# Altium integrated library Analog Devices Operational Amplifiers.IntLib: 2102 symbols (part 13 of 70)
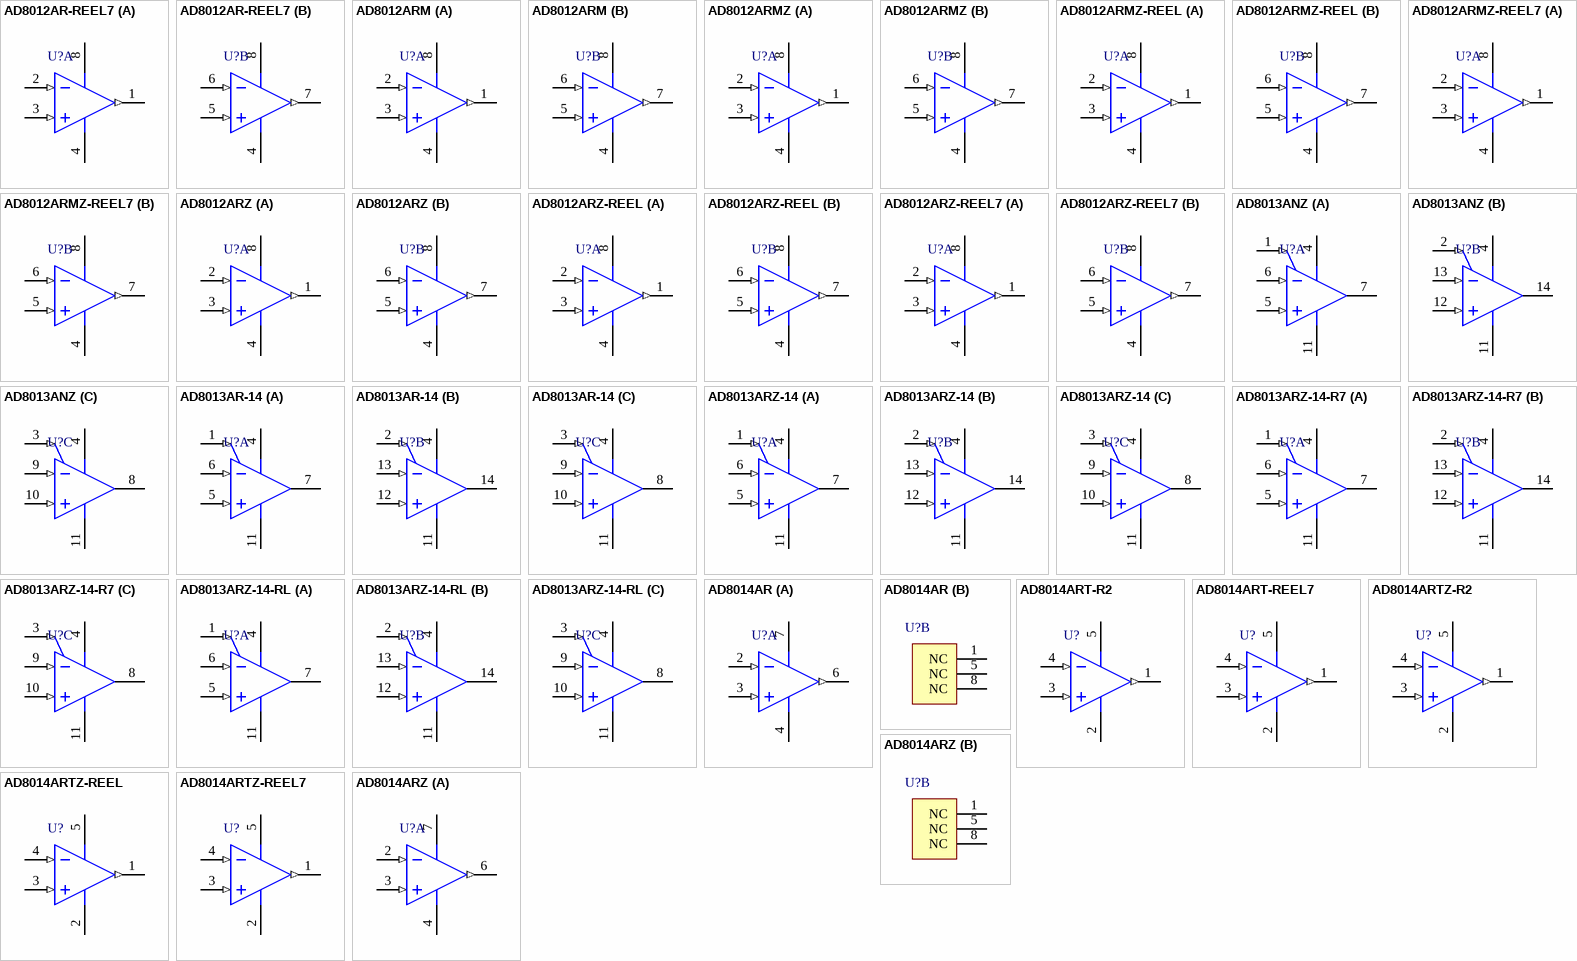
[diagram p126: symbols AD8012AR-REEL7 to AD8014ARZ]

## AD8012ARMZ
designator U?
Double Channel Low Power Operational Amplifier, 350 MHz BW, 2.25 KV/us SR, Industrial, 8-pin SOP (RM-8), Tube; Generic Part Number: AD8012; Manufacturer: Analog Devices; PartNumber: AD8012ARMZ; Amplifiers Per Package: 2; Input Bias Current: 3uA; Input Offset Voltage: 1mV; Iq/Amp: 900uA; Small Signal Bandwidth: 350MHz; V Span Max: 12V; V Span Min: 3V; DatasheetVersion: Rev. B; PackageReference: RM-8; PackageDescription: 8-Pin Mini Small Outline Package, Body 3 x 3 mm, Pitch 0.65 mm; Supplier 1: Digi-Key; Supplier Part Number 1: AD8012ARMZ-ND; Supplier 2: Farnell; Supplier Part Number 2: 1424017; Supplier 3: Newark; Supplier Part Number 3: 82H2943; Packing: Tube; Slew Rate: 2.25KV/us; Mounting Technology: Surface Mount; Code_JEDEC: MO-187-AA; ComponentLink1Description: Manufacturer URL; ComponentLink1URL: http://www.analog.com/en/index.html; ComponentLink2Description: Datasheet; ComponentLink2URL: http://www.analog.com/static/imported-files/data_sheets/AD8012.pdf; ComponentLink3Description: Package Specification; ComponentLink3URL: http://www.analog.com/static/imported-files/packages/PKG_PDF/MSOP%28RM%29/RM_8.pdf
footprint ADI-RM-8_N (SOP, 8-Leads, Body 3x3mm, Pitch 0.65mm, IPC Medium Density)
footprint ADI-RM-8_L (SOP, 8-Leads, Body 3x3mm, Pitch 0.65mm, IPC High Density)
footprint ADI-RM-8_M (SOP, 8-Leads, Body 3x3mm, Pitch 0.65mm, IPC Low Density)
pins on every part: 4 -VS (power), 8 +VS (power)
part A pins: 1 OUT 1 (out), 2 -IN 1 (in), 3 +IN 1 (in)
part B pins: 5 +IN 2 (in), 6 -IN 2 (in), 7 OUT 2 (out)

## AD8012ARMZ-REEL
designator U?
Double Channel Low Power Operational Amplifier, 350 MHz BW, 2.25 KV/us SR, Industrial, 8-pin SOP (RM-8), Reel; Generic Part Number: AD8012; Manufacturer: Analog Devices; PartNumber: AD8012ARMZ-REEL; Amplifiers Per Package: 2; Input Bias Current: 3uA; Input Offset Voltage: 1mV; Iq/Amp: 900uA; Small Signal Bandwidth: 350MHz; V Span Max: 12V; V Span Min: 3V; DatasheetVersion: Rev. B; PackageReference: RM-8; PackageDescription: 8-Pin Mini Small Outline Package, Body 3 x 3 mm, Pitch 0.65 mm; Supplier 1: Digi-Key; Supplier Part Number 1: AD8012ARMZ-REEL-ND; Packing: Reel; Slew Rate: 2.25KV/us; Mounting Technology: Surface Mount; Code_JEDEC: MO-187-AA; ComponentLink1Description: Manufacturer URL; ComponentLink1URL: http://www.analog.com/en/index.html; ComponentLink2Description: Datasheet; ComponentLink2URL: http://www.analog.com/static/imported-files/data_sheets/AD8012.pdf; ComponentLink3Description: Package Specification; ComponentLink3URL: http://www.analog.com/static/imported-files/packages/PKG_PDF/MSOP%28RM%29/RM_8.pdf
footprint ADI-RM-8_N (SOP, 8-Leads, Body 3x3mm, Pitch 0.65mm, IPC Medium Density)
footprint ADI-RM-8_L (SOP, 8-Leads, Body 3x3mm, Pitch 0.65mm, IPC High Density)
footprint ADI-RM-8_M (SOP, 8-Leads, Body 3x3mm, Pitch 0.65mm, IPC Low Density)
pins on every part: 4 -VS (power), 8 +VS (power)
part A pins: 1 OUT 1 (out), 2 -IN 1 (in), 3 +IN 1 (in)
part B pins: 5 +IN 2 (in), 6 -IN 2 (in), 7 OUT 2 (out)

## AD8012ARMZ-REEL7
designator U?
Double Channel Low Power Operational Amplifier, 350 MHz BW, 2.25 KV/us SR, Industrial, 8-pin SOP (RM-8), Reel; Generic Part Number: AD8012; Manufacturer: Analog Devices; PartNumber: AD8012ARMZ-REEL7; Amplifiers Per Package: 2; Input Bias Current: 3uA; Input Offset Voltage: 1mV; Iq/Amp: 900uA; Small Signal Bandwidth: 350MHz; V Span Max: 12V; V Span Min: 3V; DatasheetVersion: Rev. B; PackageReference: RM-8; PackageDescription: 8-Pin Mini Small Outline Package, Body 3 x 3 mm, Pitch 0.65 mm; Supplier 1: Digi-Key; Supplier Part Number 1: AD8012ARMZ-REEL7TR-ND; Supplier 2: Digi-Key; Supplier Part Number 2: AD8012ARMZ-REEL7CT-ND; Supplier 3: Digi-Key; Supplier Part Number 3: AD8012ARMZ-REEL7DKR-ND; Packing: Reel; Slew Rate: 2.25KV/us; Mounting Technology: Surface Mount; Code_JEDEC: MO-187-AA; ComponentLink1Description: Manufacturer URL; ComponentLink1URL: http://www.analog.com/en/index.html; ComponentLink2Description: Datasheet; ComponentLink2URL: http://www.analog.com/static/imported-files/data_sheets/AD8012.pdf; ComponentLink3Description: Package Specification; ComponentLink3URL: http://www.analog.com/static/imported-files/packages/PKG_PDF/MSOP%28RM%29/RM_8.pdf
footprint ADI-RM-8_N (SOP, 8-Leads, Body 3x3mm, Pitch 0.65mm, IPC Medium Density)
footprint ADI-RM-8_L (SOP, 8-Leads, Body 3x3mm, Pitch 0.65mm, IPC High Density)
footprint ADI-RM-8_M (SOP, 8-Leads, Body 3x3mm, Pitch 0.65mm, IPC Low Density)
pins on every part: 4 -VS (power), 8 +VS (power)
part A pins: 1 OUT 1 (out), 2 -IN 1 (in), 3 +IN 1 (in)
part B pins: 5 +IN 2 (in), 6 -IN 2 (in), 7 OUT 2 (out)

## AD8012ARZ
designator U?
Double Channel Low Power Operational Amplifier, 350 MHz BW, 2.25 KV/us SR, Industrial, 8-pin SOIC (R-8), Tube; Generic Part Number: AD8012; Manufacturer: Analog Devices; PartNumber: AD8012ARZ; Amplifiers Per Package: 2; Input Bias Current: 3uA; Input Offset Voltage: 1mV; Iq/Amp: 900uA; Small Signal Bandwidth: 350MHz; V Span Max: 12V; V Span Min: 3V; DatasheetVersion: Rev. B; PackageVersion: 060506-A; PackageReference: R-8; PackageDescription: 8-Pin Standard Small Outline Package, Body 3.9 x 4.9 mm, Pitch 1.27 mm; Supplier 1: Digi-Key; Supplier Part Number 1: AD8012ARZ-ND; Supplier 2: Farnell; Supplier Part Number 2: 9603719; Supplier 3: Newark; Supplier Part Number 3: 59K6174; Packing: Tube; Slew Rate: 2.25KV/us; Mounting Technology: Surface Mount; Code_JEDEC: MS-012-AA; ComponentLink1Description: Manufacturer URL; ComponentLink1URL: http://www.analog.com/en/index.html; ComponentLink2Description: Datasheet; ComponentLink2URL: http://www.analog.com/static/imported-files/data_sheets/AD8012.pdf; ComponentLink3Description: Package Specification; ComponentLink3URL: http://www.analog.com/static/imported-files/packages/PKG_PDF/SOIC_Narrow%20(R)/R_8.pdf
footprint ADI-R-8_N (SOIC, 8-Leads, Body 4.9x3.9mm, Pitch 1.27mm, IPC Medium Density)
footprint ADI-R-8_L (SOIC, 8-Leads, Body 4.9x3.9mm, Pitch 1.27mm, IPC High Density)
footprint ADI-R-8_M (SOIC, 8-Leads, Body 4.9x3.9mm, Pitch 1.27mm, IPC Low Density)
pins on every part: 4 -VS (power), 8 +VS (power)
part A pins: 1 OUT 1 (out), 2 -IN 1 (in), 3 +IN 1 (in)
part B pins: 5 +IN 2 (in), 6 -IN 2 (in), 7 OUT 2 (out)

## AD8012ARZ-REEL
designator U?
Double Channel Low Power Operational Amplifier, 350 MHz BW, 2.25 KV/us SR, Industrial, 8-pin SOIC (R-8), Reel; Generic Part Number: AD8012; Manufacturer: Analog Devices; PartNumber: AD8012ARZ-REEL; Amplifiers Per Package: 2; Input Bias Current: 3uA; Input Offset Voltage: 1mV; Iq/Amp: 900uA; Small Signal Bandwidth: 350MHz; V Span Max: 12V; V Span Min: 3V; DatasheetVersion: Rev. B; PackageVersion: 060506-A; PackageReference: R-8; PackageDescription: 8-Pin Standard Small Outline Package, Body 3.9 x 4.9 mm, Pitch 1.27 mm; Supplier 1: Digi-Key; Supplier Part Number 1: AD8012ARZ-REEL-ND; Packing: Reel; Slew Rate: 2.25KV/us; Mounting Technology: Surface Mount; Code_JEDEC: MS-012-AA; ComponentLink1Description: Manufacturer URL; ComponentLink1URL: http://www.analog.com/en/index.html; ComponentLink2Description: Datasheet; ComponentLink2URL: http://www.analog.com/static/imported-files/data_sheets/AD8012.pdf; ComponentLink3Description: Package Specification; ComponentLink3URL: http://www.analog.com/static/imported-files/packages/PKG_PDF/SOIC_Narrow%20(R)/R_8.pdf
footprint ADI-R-8_N (SOIC, 8-Leads, Body 4.9x3.9mm, Pitch 1.27mm, IPC Medium Density)
footprint ADI-R-8_L (SOIC, 8-Leads, Body 4.9x3.9mm, Pitch 1.27mm, IPC High Density)
footprint ADI-R-8_M (SOIC, 8-Leads, Body 4.9x3.9mm, Pitch 1.27mm, IPC Low Density)
pins on every part: 4 -VS (power), 8 +VS (power)
part A pins: 1 OUT 1 (out), 2 -IN 1 (in), 3 +IN 1 (in)
part B pins: 5 +IN 2 (in), 6 -IN 2 (in), 7 OUT 2 (out)

## AD8012ARZ-REEL7
designator U?
Double Channel Low Power Operational Amplifier, 350 MHz BW, 2.25 KV/us SR, Industrial, 8-pin SOIC (R-8), Reel; Generic Part Number: AD8012; Manufacturer: Analog Devices; PartNumber: AD8012ARZ-REEL7; Amplifiers Per Package: 2; Input Bias Current: 3uA; Input Offset Voltage: 1mV; Iq/Amp: 900uA; Small Signal Bandwidth: 350MHz; V Span Max: 12V; V Span Min: 3V; DatasheetVersion: Rev. B; PackageVersion: 060506-A; PackageReference: R-8; PackageDescription: 8-Pin Standard Small Outline Package, Body 3.9 x 4.9 mm, Pitch 1.27 mm; Supplier 1: Digi-Key; Supplier Part Number 1: AD8012ARZ-REEL7TR-ND; Supplier 2: Digi-Key; Supplier Part Number 2: AD8012ARZ-REEL7CT-ND; Supplier 3: Digi-Key; Supplier Part Number 3: AD8012ARZ-REEL7DKR-ND; Supplier 4: Newark; Supplier Part Number 4: 59K6176; Packing: Reel; Slew Rate: 2.25KV/us; Mounting Technology: Surface Mount; Code_JEDEC: MS-012-AA; ComponentLink1Description: Manufacturer URL; ComponentLink1URL: http://www.analog.com/en/index.html; ComponentLink2Description: Datasheet; ComponentLink2URL: http://www.analog.com/static/imported-files/data_sheets/AD8012.pdf; ComponentLink3Description: Package Specification; ComponentLink3URL: http://www.analog.com/static/imported-files/packages/PKG_PDF/SOIC_Narrow%20(R)/R_8.pdf
footprint ADI-R-8_N (SOIC, 8-Leads, Body 4.9x3.9mm, Pitch 1.27mm, IPC Medium Density)
footprint ADI-R-8_L (SOIC, 8-Leads, Body 4.9x3.9mm, Pitch 1.27mm, IPC High Density)
footprint ADI-R-8_M (SOIC, 8-Leads, Body 4.9x3.9mm, Pitch 1.27mm, IPC Low Density)
pins on every part: 4 -VS (power), 8 +VS (power)
part A pins: 1 OUT 1 (out), 2 -IN 1 (in), 3 +IN 1 (in)
part B pins: 5 +IN 2 (in), 6 -IN 2 (in), 7 OUT 2 (out)

## AD8013ANZ
designator U?
3 Channel Low Power Operational Amplifier, 480 MHz BW, 1 KV/us SR, Industrial, 14-pin DIP (N-14), Tube; Generic Part Number: AD8013; Manufacturer: Analog Devices; PartNumber: AD8013ANZ; Amplifiers Per Package: 3; Input Bias Current: 3uA; Input Offset Voltage: 2mV; Iq/Amp: 4mA; Slew Rate: 1KV/us; Small Signal Bandwidth: 480MHz; V Span Max: 13V; V Span Min: 4.2V; DatasheetVersion: Rev. A; PackageVersion: 070606-A; PackageReference: N-14; PackageDescription: 14-Pin Plastic Dual In-Line Package, Row spacing 7.62 mm, Pitch 2.54 mm; Supplier 1: Digi-Key; Supplier Part Number 1: AD8013ANZ-ND; Mounting Technology: Through Hole; Code_JEDEC: MS-001; ComponentLink1Description: Manufacturer URL; ComponentLink1URL: http://www.analog.com/en/index.html; ComponentLink2Description: Datasheet; ComponentLink2URL: http://www.analog.com/static/imported-files/data_sheets/AD8013.pdf; ComponentLink3Description: Package Specification; ComponentLink3URL: http://www.analog.com/static/imported-files/packages/N_14.pdf
footprint ADI-N-14 (DIP, 14-Leads, Body 19.18x6.605mm, Pitch 2.54mm)
pins on every part: 4 +VS (power), 11 -VS (power)
part A pins: 1 DISABLE 1 (in), 5 +IN 1 (in), 6 -IN 1 (in), 7 OUT 1 (hiz)
part B pins: 2 DISABLE 2 (in), 12 +IN 2 (in), 13 -IN 2 (in), 14 OUT 2 (hiz)
part C pins: 3 DISABLE 3 (in), 8 OUT 3 (hiz), 9 -IN 3 (in), 10 +IN 3 (in)

## AD8013AR-14
designator U?
3 Channel Low Power Operational Amplifier, 480 MHz BW, 1 KV/us SR, Industrial, 14-pin SOIC (R-14), Tube; Generic Part Number: AD8013; Manufacturer: Analog Devices; PartNumber: AD8013AR-14; Amplifiers Per Package: 3; Input Bias Current: 3uA; Input Offset Voltage: 2mV; Iq/Amp: 4mA; Slew Rate: 1KV/us; Small Signal Bandwidth: 480MHz; V Span Max: 13V; V Span Min: 4.2V; DatasheetVersion: Rev. A; PackageVersion: 060606-A; PackageReference: R-14; PackageDescription: 14-Pin Standard Small Outline Package, Body 8.65 x 3.9 mm, Pitch 1.27 mm; Supplier 1: Digi-Key; Supplier Part Number 1: AD8013AR-14-ND; Mounting Technology: Surface Mount; Code_JEDEC: MS-012-AB; ComponentLink1Description: Manufacturer URL; ComponentLink1URL: http://www.analog.com/en/index.html; ComponentLink2Description: Datasheet; ComponentLink2URL: http://www.analog.com/static/imported-files/data_sheets/AD8013.pdf; ComponentLink3Description: Package Specification; ComponentLink3URL: http://www.analog.com/static/imported-files/packages/PKG_PDF/SOIC_Narrow%20(R)/R_14.pdf
footprint ADI-R-14_N (SOIC, 14-Leads, Body 8.65x3.9mm, Pitch 1.27mm, IPC Medium Density)
footprint ADI-R-14_L (SOIC, 14-Leads, Body 8.65x3.9mm, Pitch 1.27mm, IPC High Density)
footprint ADI-R-14_M (SOIC, 14-Leads, Body 8.65x3.9mm, Pitch 1.27mm, IPC Low Density)
pins on every part: 4 +VS (power), 11 -VS (power)
part A pins: 1 DISABLE 1 (in), 5 +IN 1 (in), 6 -IN 1 (in), 7 OUT 1 (hiz)
part B pins: 2 DISABLE 2 (in), 12 +IN 2 (in), 13 -IN 2 (in), 14 OUT 2 (hiz)
part C pins: 3 DISABLE 3 (in), 8 OUT 3 (hiz), 9 -IN 3 (in), 10 +IN 3 (in)

## AD8013ARZ-14
designator U?
3 Channel Low Power Operational Amplifier, 480 MHz BW, 1 KV/us SR, Industrial, 14-pin SOIC (R-14), Tube; Generic Part Number: AD8013; Manufacturer: Analog Devices; PartNumber: AD8013ARZ-14; Amplifiers Per Package: 3; Input Bias Current: 3uA; Input Offset Voltage: 2mV; Iq/Amp: 4mA; Slew Rate: 1KV/us; Small Signal Bandwidth: 480MHz; V Span Max: 13V; V Span Min: 4.2V; DatasheetVersion: Rev. A; PackageVersion: 060606-A; PackageReference: R-14; PackageDescription: 14-Pin Standard Small Outline Package, Body 8.65 x 3.9 mm, Pitch 1.27 mm; Supplier 1: Digi-Key; Supplier Part Number 1: AD8013ARZ-14-ND; Supplier 2: Newark; Supplier Part Number 2: 59K6177; Mounting Technology: Surface Mount; Code_JEDEC: MS-012-AB; ComponentLink1Description: Manufacturer URL; ComponentLink1URL: http://www.analog.com/en/index.html; ComponentLink2Description: Datasheet; ComponentLink2URL: http://www.analog.com/static/imported-files/data_sheets/AD8013.pdf; ComponentLink3Description: Package Specification; ComponentLink3URL: http://www.analog.com/static/imported-files/packages/PKG_PDF/SOIC_Narrow%20(R)/R_14.pdf
footprint ADI-R-14_N (SOIC, 14-Leads, Body 8.65x3.9mm, Pitch 1.27mm, IPC Medium Density)
footprint ADI-R-14_L (SOIC, 14-Leads, Body 8.65x3.9mm, Pitch 1.27mm, IPC High Density)
footprint ADI-R-14_M (SOIC, 14-Leads, Body 8.65x3.9mm, Pitch 1.27mm, IPC Low Density)
pins on every part: 4 +VS (power), 11 -VS (power)
part A pins: 1 DISABLE 1 (in), 5 +IN 1 (in), 6 -IN 1 (in), 7 OUT 1 (hiz)
part B pins: 2 DISABLE 2 (in), 12 +IN 2 (in), 13 -IN 2 (in), 14 OUT 2 (hiz)
part C pins: 3 DISABLE 3 (in), 8 OUT 3 (hiz), 9 -IN 3 (in), 10 +IN 3 (in)

## AD8013ARZ-14-R7
designator U?
3 Channel Low Power Operational Amplifier, 480 MHz BW, 1 KV/us SR, Industrial, 14-pin SOIC (R-14), Reel; Generic Part Number: AD8013; Manufacturer: Analog Devices; PartNumber: AD8013ARZ-14-R7; Amplifiers Per Package: 3; Input Bias Current: 3uA; Input Offset Voltage: 2mV; Iq/Amp: 4mA; Slew Rate: 1KV/us; Small Signal Bandwidth: 480MHz; V Span Max: 13V; V Span Min: 4.2V; DatasheetVersion: Rev. A; PackageVersion: 060606-A; PackageReference: R-14; PackageDescription: 14-Pin Standard Small Outline Package, Body 8.65 x 3.9 mm, Pitch 1.27 mm; Supplier 1: Digi-Key; Supplier Part Number 1: AD8013ARZ-14-R7-ND; Mounting Technology: Surface Mount; Code_JEDEC: MS-012-AB; ComponentLink1Description: Manufacturer URL; ComponentLink1URL: http://www.analog.com/en/index.html; ComponentLink2Description: Datasheet; ComponentLink2URL: http://www.analog.com/static/imported-files/data_sheets/AD8013.pdf; ComponentLink3Description: Package Specification; ComponentLink3URL: http://www.analog.com/static/imported-files/packages/PKG_PDF/SOIC_Narrow%20(R)/R_14.pdf
footprint ADI-R-14_N (SOIC, 14-Leads, Body 8.65x3.9mm, Pitch 1.27mm, IPC Medium Density)
footprint ADI-R-14_L (SOIC, 14-Leads, Body 8.65x3.9mm, Pitch 1.27mm, IPC High Density)
footprint ADI-R-14_M (SOIC, 14-Leads, Body 8.65x3.9mm, Pitch 1.27mm, IPC Low Density)
pins on every part: 4 +VS (power), 11 -VS (power)
part A pins: 1 DISABLE 1 (in), 5 +IN 1 (in), 6 -IN 1 (in), 7 OUT 1 (hiz)
part B pins: 2 DISABLE 2 (in), 12 +IN 2 (in), 13 -IN 2 (in), 14 OUT 2 (hiz)
part C pins: 3 DISABLE 3 (in), 8 OUT 3 (hiz), 9 -IN 3 (in), 10 +IN 3 (in)

## AD8013ARZ-14-RL
designator U?
3 Channel Low Power Operational Amplifier, 480 MHz BW, 1 KV/us SR, Industrial, 14-pin SOIC (R-14), Reel; Generic Part Number: AD8013; Manufacturer: Analog Devices; PartNumber: AD8013ARZ-14-RL; Amplifiers Per Package: 3; Input Bias Current: 3uA; Input Offset Voltage: 2mV; Iq/Amp: 4mA; Slew Rate: 1KV/us; Small Signal Bandwidth: 480MHz; V Span Max: 13V; V Span Min: 4.2V; DatasheetVersion: Rev. A; PackageVersion: 060606-A; PackageReference: R-14; PackageDescription: 14-Pin Standard Small Outline Package, Body 8.65 x 3.9 mm, Pitch 1.27 mm; Supplier 1: Digi-Key; Supplier Part Number 1: AD8013ARZ-14-RL-ND; Mounting Technology: Surface Mount; Code_JEDEC: MS-012-AB; ComponentLink1Description: Manufacturer URL; ComponentLink1URL: http://www.analog.com/en/index.html; ComponentLink2Description: Datasheet; ComponentLink2URL: http://www.analog.com/static/imported-files/data_sheets/AD8013.pdf; ComponentLink3Description: Package Specification; ComponentLink3URL: http://www.analog.com/static/imported-files/packages/PKG_PDF/SOIC_Narrow%20(R)/R_14.pdf
footprint ADI-R-14_N (SOIC, 14-Leads, Body 8.65x3.9mm, Pitch 1.27mm, IPC Medium Density)
footprint ADI-R-14_L (SOIC, 14-Leads, Body 8.65x3.9mm, Pitch 1.27mm, IPC High Density)
footprint ADI-R-14_M (SOIC, 14-Leads, Body 8.65x3.9mm, Pitch 1.27mm, IPC Low Density)
pins on every part: 4 +VS (power), 11 -VS (power)
part A pins: 1 DISABLE 1 (in), 5 +IN 1 (in), 6 -IN 1 (in), 7 OUT 1 (hiz)
part B pins: 2 DISABLE 2 (in), 12 +IN 2 (in), 13 -IN 2 (in), 14 OUT 2 (hiz)
part C pins: 3 DISABLE 3 (in), 8 OUT 3 (hiz), 9 -IN 3 (in), 10 +IN 3 (in)

## AD8014AR
designator U?
Single Channel Very Low Noise Operational Amplifier, 400 MHz BW, 4 KV/us SR, Industrial, 8-pin SOIC (R-8), Tube; Generic Part Number: AD8014; Manufacturer: Analog Devices; PartNumber: AD8014AR; Amplifiers Per Package: 1; Input Bias Current: 5uA; Input Offset Voltage: 2mV; Iq/Amp: 1.3mA; Slew Rate: 4KV/us; Small Signal Bandwidth: 400MHz; V Span Max: 12V; V Span Min: 4.5V; DatasheetVersion: Rev. C; PackageVersion: 060506-A; PackageReference: R-8; PackageDescription: 8-Pin Standard Small Outline Package, Body 3.9 x 4.9 mm, Pitch 1.27 mm; Supplier 1: Digi-Key; Supplier Part Number 1: AD8014AR-ND; Mounting Technology: Surface Mount; Code_JEDEC: MS-012-AA; ComponentLink1Description: Manufacturer URL; ComponentLink1URL: http://www.analog.com/en/index.html; ComponentLink2Description: Datasheet; ComponentLink2URL: http://www.analog.com/static/imported-files/data_sheets/AD8014.pdf; ComponentLink3Description: Package Specification; ComponentLink3URL: http://www.analog.com/static/imported-files/packages/PKG_PDF/SOIC_Narrow%20(R)/R_8.pdf
footprint ADI-R-8_N (SOIC, 8-Leads, Body 4.9x3.9mm, Pitch 1.27mm, IPC Medium Density)
footprint ADI-R-8_L (SOIC, 8-Leads, Body 4.9x3.9mm, Pitch 1.27mm, IPC High Density)
footprint ADI-R-8_M (SOIC, 8-Leads, Body 4.9x3.9mm, Pitch 1.27mm, IPC Low Density)
part A pins: 2 -IN (in), 3 +IN (in), 4 -VS (power), 6 VOUT (out), 7 +VS (power)
part B pins: 1 NC, 5 NC, 8 NC

## AD8014ART-R2
designator U?
Single Channel Very Low Noise Operational Amplifier, 400 MHz BW, 4 KV/us SR, Industrial, 5-pin SOT23 (RJ-5), Reel; Generic Part Number: AD8014; Manufacturer: Analog Devices; PartNumber: AD8014ART-R2; Amplifiers Per Package: 1; Input Bias Current: 5uA; Input Offset Voltage: 2mV; Iq/Amp: 1.3mA; Slew Rate: 4KV/us; Small Signal Bandwidth: 400MHz; V Span Max: 12V; V Span Min: 4.5V; DatasheetVersion: Rev. C; PackageVersion: 121608-A; PackageReference: RJ-5; PackageDescription: 5-Pin Small Outline Transistor Package, Body 2.9 x 1.6 mm, Pitch 0.95 mm; Mounting Technology: Surface Mount; Code_JEDEC: MO-178-AA; ComponentLink1Description: Manufacturer URL; ComponentLink1URL: http://www.analog.com/en/index.html; ComponentLink2Description: Datasheet; ComponentLink2URL: http://www.analog.com/static/imported-files/data_sheets/AD8014.pdf; ComponentLink3Description: Package Specification; ComponentLink3URL: http://www.analog.com/static/imported-files/packages/PKG_PDF/SOT-23(RJ)/RJ_5.pdf
footprint ADI-RJ-5_N (SOT-23, 5-Leads, Body 2.9x1.6mm, Pitch 0.95mm, IPC Medium Density)
footprint ADI-RJ-5_L (SOT-23, 5-Leads, Body 2.9x1.6mm, Pitch 0.95mm, IPC High Density)
footprint ADI-RJ-5_M (SOT-23, 5-Leads, Body 2.9x1.6mm, Pitch 0.95mm, IPC Low Density)
pins: 1 VOUT (out), 2 -VS (power), 3 +IN (in), 4 -IN (in), 5 +VS (power)

## AD8014ART-REEL7
designator U?
Single Channel Very Low Noise Operational Amplifier, 400 MHz BW, 4 KV/us SR, Industrial, 5-pin SOT23 (RJ-5), Reel; Generic Part Number: AD8014; Manufacturer: Analog Devices; PartNumber: AD8014ART-REEL7; Amplifiers Per Package: 1; Input Bias Current: 5uA; Input Offset Voltage: 2mV; Iq/Amp: 1.3mA; Slew Rate: 4KV/us; Small Signal Bandwidth: 400MHz; V Span Max: 12V; V Span Min: 4.5V; DatasheetVersion: Rev. C; PackageVersion: 121608-A; PackageReference: RJ-5; PackageDescription: 5-Pin Small Outline Transistor Package, Body 2.9 x 1.6 mm, Pitch 0.95 mm; Supplier 1: Digi-Key; Supplier Part Number 1: AD8014ART-REEL7TR-ND; Supplier 2: Newark; Supplier Part Number 2: 09B6356; Mounting Technology: Surface Mount; Code_JEDEC: MO-178-AA; ComponentLink1Description: Manufacturer URL; ComponentLink1URL: http://www.analog.com/en/index.html; ComponentLink2Description: Datasheet; ComponentLink2URL: http://www.analog.com/static/imported-files/data_sheets/AD8014.pdf; ComponentLink3Description: Package Specification; ComponentLink3URL: http://www.analog.com/static/imported-files/packages/PKG_PDF/SOT-23(RJ)/RJ_5.pdf
footprint ADI-RJ-5_N (SOT-23, 5-Leads, Body 2.9x1.6mm, Pitch 0.95mm, IPC Medium Density)
footprint ADI-RJ-5_L (SOT-23, 5-Leads, Body 2.9x1.6mm, Pitch 0.95mm, IPC High Density)
footprint ADI-RJ-5_M (SOT-23, 5-Leads, Body 2.9x1.6mm, Pitch 0.95mm, IPC Low Density)
pins: 1 VOUT (out), 2 -VS (power), 3 +IN (in), 4 -IN (in), 5 +VS (power)

## AD8014ARTZ-R2
designator U?
Single Channel Very Low Noise Operational Amplifier, 400 MHz BW, 4 KV/us SR, Industrial, 5-pin SOT23 (RJ-5), Reel; Generic Part Number: AD8014; Manufacturer: Analog Devices; PartNumber: AD8014ARTZ-R2; Amplifiers Per Package: 1; Input Bias Current: 5uA; Input Offset Voltage: 2mV; Iq/Amp: 1.3mA; Slew Rate: 4KV/us; Small Signal Bandwidth: 400MHz; V Span Max: 12V; V Span Min: 4.5V; DatasheetVersion: Rev. C; PackageVersion: 121608-A; PackageReference: RJ-5; PackageDescription: 5-Pin Small Outline Transistor Package, Body 2.9 x 1.6 mm, Pitch 0.95 mm; Supplier 1: Farnell; Supplier Part Number 1: 2074877; Supplier 2: Farnell; Supplier Part Number 2: 2074877RL; Supplier 3: Newark; Supplier Part Number 3: 76T1820; Mounting Technology: Surface Mount; Code_JEDEC: MO-178-AA; ComponentLink1Description: Manufacturer URL; ComponentLink1URL: http://www.analog.com/en/index.html; ComponentLink2Description: Datasheet; ComponentLink2URL: http://www.analog.com/static/imported-files/data_sheets/AD8014.pdf; ComponentLink3Description: Package Specification; ComponentLink3URL: http://www.analog.com/static/imported-files/packages/PKG_PDF/SOT-23(RJ)/RJ_5.pdf
footprint ADI-RJ-5_N (SOT-23, 5-Leads, Body 2.9x1.6mm, Pitch 0.95mm, IPC Medium Density)
footprint ADI-RJ-5_L (SOT-23, 5-Leads, Body 2.9x1.6mm, Pitch 0.95mm, IPC High Density)
footprint ADI-RJ-5_M (SOT-23, 5-Leads, Body 2.9x1.6mm, Pitch 0.95mm, IPC Low Density)
pins: 1 VOUT (out), 2 -VS (power), 3 +IN (in), 4 -IN (in), 5 +VS (power)

## AD8014ARTZ-REEL
designator U?
Single Channel Very Low Noise Operational Amplifier, 400 MHz BW, 4 KV/us SR, Industrial, 5-pin SOT23 (RJ-5), Reel; Generic Part Number: AD8014; Manufacturer: Analog Devices; PartNumber: AD8014ARTZ-REEL; Amplifiers Per Package: 1; Input Bias Current: 5uA; Input Offset Voltage: 2mV; Iq/Amp: 1.3mA; Slew Rate: 4KV/us; Small Signal Bandwidth: 400MHz; V Span Max: 12V; V Span Min: 4.5V; DatasheetVersion: Rev. C; PackageVersion: 121608-A; PackageReference: RJ-5; PackageDescription: 5-Pin Small Outline Transistor Package, Body 2.9 x 1.6 mm, Pitch 0.95 mm; Supplier 1: Digi-Key; Supplier Part Number 1: AD8014ARTZ-REEL-ND; Mounting Technology: Surface Mount; Code_JEDEC: MO-178-AA; ComponentLink1Description: Manufacturer URL; ComponentLink1URL: http://www.analog.com/en/index.html; ComponentLink2Description: Datasheet; ComponentLink2URL: http://www.analog.com/static/imported-files/data_sheets/AD8014.pdf; ComponentLink3Description: Package Specification; ComponentLink3URL: http://www.analog.com/static/imported-files/packages/PKG_PDF/SOT-23(RJ)/RJ_5.pdf
footprint ADI-RJ-5_N (SOT-23, 5-Leads, Body 2.9x1.6mm, Pitch 0.95mm, IPC Medium Density)
footprint ADI-RJ-5_L (SOT-23, 5-Leads, Body 2.9x1.6mm, Pitch 0.95mm, IPC High Density)
footprint ADI-RJ-5_M (SOT-23, 5-Leads, Body 2.9x1.6mm, Pitch 0.95mm, IPC Low Density)
pins: 1 VOUT (out), 2 -VS (power), 3 +IN (in), 4 -IN (in), 5 +VS (power)

## AD8014ARTZ-REEL7
designator U?
Single Channel Very Low Noise Operational Amplifier, 400 MHz BW, 4 KV/us SR, Industrial, 5-pin SOT23 (RJ-5), Reel; Generic Part Number: AD8014; Manufacturer: Analog Devices; PartNumber: AD8014ARTZ-REEL7; Amplifiers Per Package: 1; Input Bias Current: 5uA; Input Offset Voltage: 2mV; Iq/Amp: 1.3mA; Slew Rate: 4KV/us; Small Signal Bandwidth: 400MHz; V Span Max: 12V; V Span Min: 4.5V; DatasheetVersion: Rev. C; PackageVersion: 121608-A; PackageReference: RJ-5; PackageDescription: 5-Pin Small Outline Transistor Package, Body 2.9 x 1.6 mm, Pitch 0.95 mm; Supplier 1: Digi-Key; Supplier Part Number 1: AD8014ARTZ-REEL7TR-ND; Supplier 2: Digi-Key; Supplier Part Number 2: AD8014ARTZ-REEL7CT-ND; Supplier 3: Digi-Key; Supplier Part Number 3: AD8014ARTZ-REEL7DKR-ND; Supplier 4: Newark; Supplier Part Number 4: 68H9060; Mounting Technology: Surface Mount; Code_JEDEC: MO-178-AA; ComponentLink1Description: Manufacturer URL; ComponentLink1URL: http://www.analog.com/en/index.html; ComponentLink2Description: Datasheet; ComponentLink2URL: http://www.analog.com/static/imported-files/data_sheets/AD8014.pdf; ComponentLink3Description: Package Specification; ComponentLink3URL: http://www.analog.com/static/imported-files/packages/PKG_PDF/SOT-23(RJ)/RJ_5.pdf
footprint ADI-RJ-5_N (SOT-23, 5-Leads, Body 2.9x1.6mm, Pitch 0.95mm, IPC Medium Density)
footprint ADI-RJ-5_L (SOT-23, 5-Leads, Body 2.9x1.6mm, Pitch 0.95mm, IPC High Density)
footprint ADI-RJ-5_M (SOT-23, 5-Leads, Body 2.9x1.6mm, Pitch 0.95mm, IPC Low Density)
pins: 1 VOUT (out), 2 -VS (power), 3 +IN (in), 4 -IN (in), 5 +VS (power)

## AD8014ARZ
designator U?
Single Channel Very Low Noise Operational Amplifier, 400 MHz BW, 4 KV/us SR, Industrial, 8-pin SOIC (R-8), Tube; Generic Part Number: AD8014; Manufacturer: Analog Devices; PartNumber: AD8014ARZ; Amplifiers Per Package: 1; Input Bias Current: 5uA; Input Offset Voltage: 2mV; Iq/Amp: 1.3mA; Slew Rate: 4KV/us; Small Signal Bandwidth: 400MHz; V Span Max: 12V; V Span Min: 4.5V; DatasheetVersion: Rev. C; PackageVersion: 060506-A; PackageReference: R-8; PackageDescription: 8-Pin Standard Small Outline Package, Body 3.9 x 4.9 mm, Pitch 1.27 mm; Supplier 1: Digi-Key; Supplier Part Number 1: AD8014ARZ-ND; Supplier 2: Farnell; Supplier Part Number 2: 8621489; Supplier 3: Newark; Supplier Part Number 3: 88H0097; Mounting Technology: Surface Mount; Code_JEDEC: MS-012-AA; ComponentLink1Description: Manufacturer URL; ComponentLink1URL: http://www.analog.com/en/index.html; ComponentLink2Description: Datasheet; ComponentLink2URL: http://www.analog.com/static/imported-files/data_sheets/AD8014.pdf; ComponentLink3Description: Package Specification; ComponentLink3URL: http://www.analog.com/static/imported-files/packages/PKG_PDF/SOIC_Narrow%20(R)/R_8.pdf
footprint ADI-R-8_N (SOIC, 8-Leads, Body 4.9x3.9mm, Pitch 1.27mm, IPC Medium Density)
footprint ADI-R-8_L (SOIC, 8-Leads, Body 4.9x3.9mm, Pitch 1.27mm, IPC High Density)
footprint ADI-R-8_M (SOIC, 8-Leads, Body 4.9x3.9mm, Pitch 1.27mm, IPC Low Density)
part A pins: 2 -IN (in), 3 +IN (in), 4 -VS (power), 6 VOUT (out), 7 +VS (power)
part B pins: 1 NC, 5 NC, 8 NC

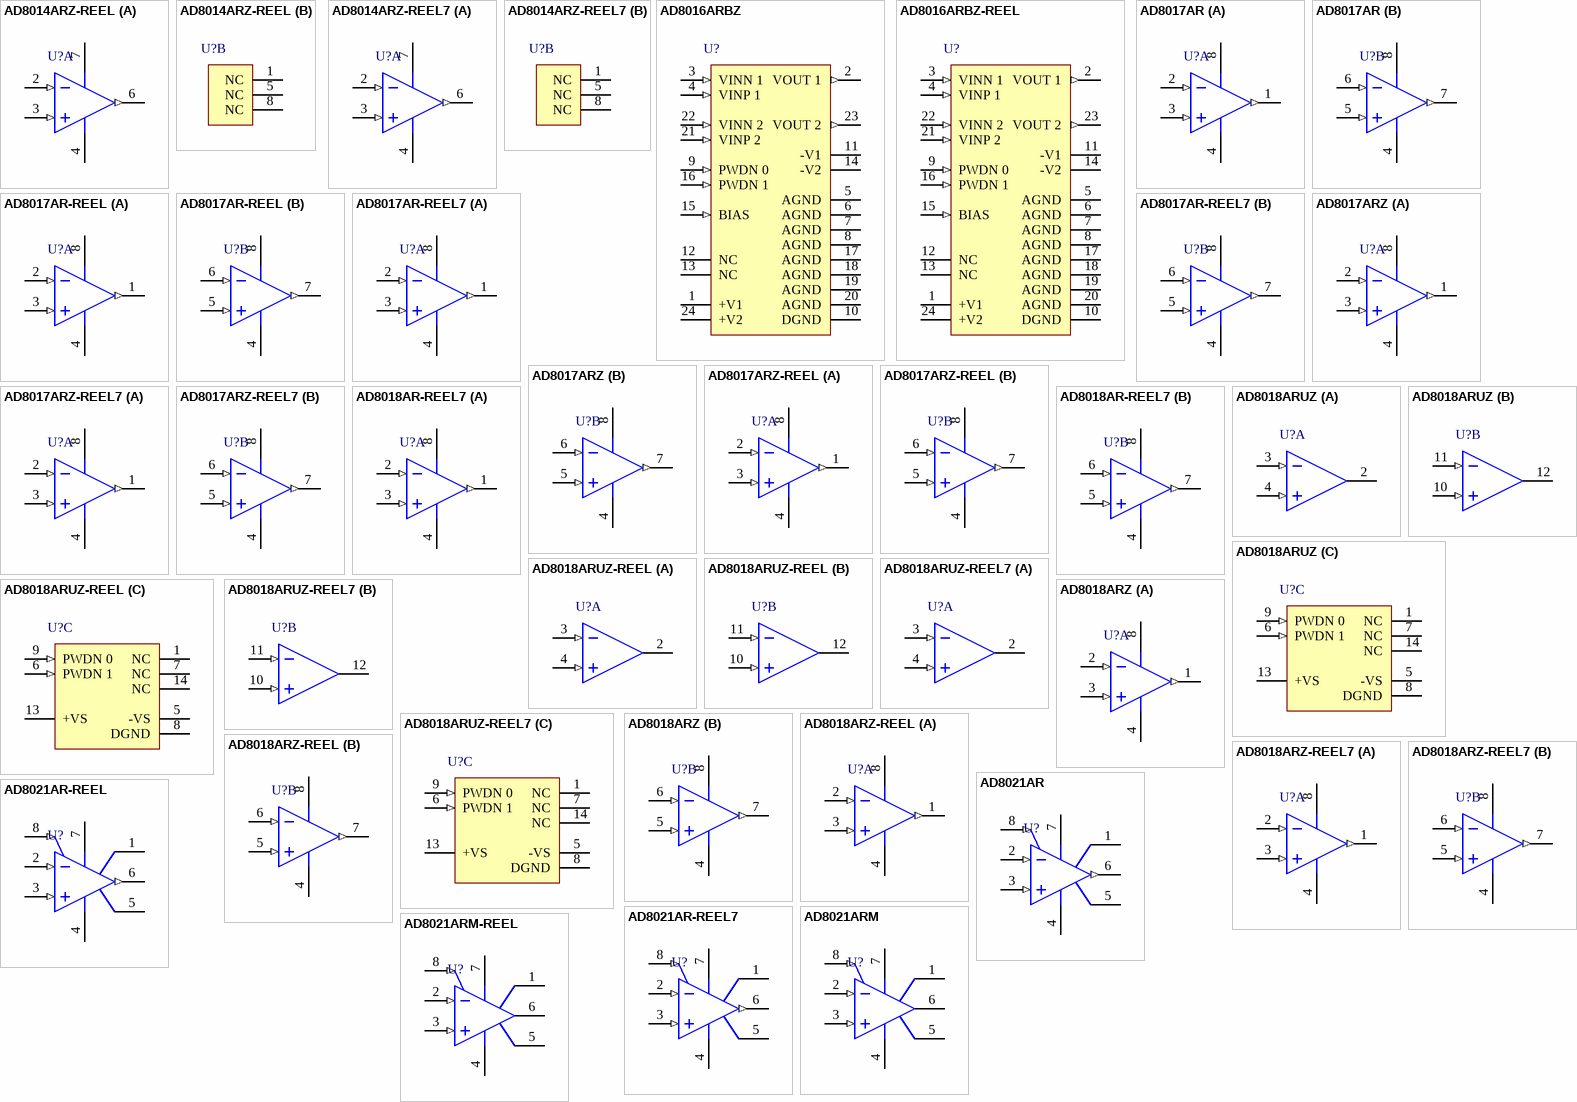
[diagram p20: symbols AD8014ARZ-REEL to AD8021ARM-REEL]

## AD8014ARZ-REEL
designator U?
Single Channel Very Low Noise Operational Amplifier, 400 MHz BW, 4 KV/us SR, Industrial, 8-pin SOIC (R-8), Reel; Generic Part Number: AD8014; Manufacturer: Analog Devices; PartNumber: AD8014ARZ-REEL; Amplifiers Per Package: 1; Input Bias Current: 5uA; Input Offset Voltage: 2mV; Iq/Amp: 1.3mA; Slew Rate: 4KV/us; Small Signal Bandwidth: 400MHz; V Span Max: 12V; V Span Min: 4.5V; DatasheetVersion: Rev. C; PackageVersion: 060506-A; PackageReference: R-8; PackageDescription: 8-Pin Standard Small Outline Package, Body 3.9 x 4.9 mm, Pitch 1.27 mm; Supplier 1: Digi-Key; Supplier Part Number 1: AD8014ARZ-REEL-ND; Supplier 2: Newark; Supplier Part Number 2: 88H0098; Mounting Technology: Surface Mount; Code_JEDEC: MS-012-AA; ComponentLink1Description: Manufacturer URL; ComponentLink1URL: http://www.analog.com/en/index.html; ComponentLink2Description: Datasheet; ComponentLink2URL: http://www.analog.com/static/imported-files/data_sheets/AD8014.pdf; ComponentLink3Description: Package Specification; ComponentLink3URL: http://www.analog.com/static/imported-files/packages/PKG_PDF/SOIC_Narrow%20(R)/R_8.pdf
footprint ADI-R-8_N (SOIC, 8-Leads, Body 4.9x3.9mm, Pitch 1.27mm, IPC Medium Density)
footprint ADI-R-8_L (SOIC, 8-Leads, Body 4.9x3.9mm, Pitch 1.27mm, IPC High Density)
footprint ADI-R-8_M (SOIC, 8-Leads, Body 4.9x3.9mm, Pitch 1.27mm, IPC Low Density)
part A pins: 2 -IN (in), 3 +IN (in), 4 -VS (power), 6 VOUT (out), 7 +VS (power)
part B pins: 1 NC, 5 NC, 8 NC

## AD8014ARZ-REEL7
designator U?
Single Channel Very Low Noise Operational Amplifier, 400 MHz BW, 4 KV/us SR, Industrial, 8-pin SOIC (R-8), Reel; Generic Part Number: AD8014; Manufacturer: Analog Devices; PartNumber: AD8014ARZ-REEL7; Amplifiers Per Package: 1; Input Bias Current: 5uA; Input Offset Voltage: 2mV; Iq/Amp: 1.3mA; Slew Rate: 4KV/us; Small Signal Bandwidth: 400MHz; V Span Max: 12V; V Span Min: 4.5V; DatasheetVersion: Rev. C; PackageVersion: 060506-A; PackageReference: R-8; PackageDescription: 8-Pin Standard Small Outline Package, Body 3.9 x 4.9 mm, Pitch 1.27 mm; Supplier 1: Digi-Key; Supplier Part Number 1: AD8014ARZ-REEL7-ND; Supplier 2: Newark; Supplier Part Number 2: 88H0099; Mounting Technology: Surface Mount; Code_JEDEC: MS-012-AA; ComponentLink1Description: Manufacturer URL; ComponentLink1URL: http://www.analog.com/en/index.html; ComponentLink2Description: Datasheet; ComponentLink2URL: http://www.analog.com/static/imported-files/data_sheets/AD8014.pdf; ComponentLink3Description: Package Specification; ComponentLink3URL: http://www.analog.com/static/imported-files/packages/PKG_PDF/SOIC_Narrow%20(R)/R_8.pdf
footprint ADI-R-8_N (SOIC, 8-Leads, Body 4.9x3.9mm, Pitch 1.27mm, IPC Medium Density)
footprint ADI-R-8_L (SOIC, 8-Leads, Body 4.9x3.9mm, Pitch 1.27mm, IPC High Density)
footprint ADI-R-8_M (SOIC, 8-Leads, Body 4.9x3.9mm, Pitch 1.27mm, IPC Low Density)
part A pins: 2 -IN (in), 3 +IN (in), 4 -VS (power), 6 VOUT (out), 7 +VS (power)
part B pins: 1 NC, 5 NC, 8 NC

## AD8016ARBZ
designator U?
Double Channel Low Power Operational Amplifier, 380 MHz BW, 1 KV/us SR, Industrial, 24-pin SOIC (RB-24), Tube; Generic Part Number: AD8016; Manufacturer: Analog Devices; PartNumber: AD8016ARBZ; Amplifiers Per Package: 2; Input Bias Current: 45uA; Input Offset Voltage: 1mV; Iq/Amp: 13.2mA; Slew Rate: 1KV/us; Small Signal Bandwidth: 380MHz; V Span Max: 26V; V Span Min: 6V; DatasheetVersion: 02-23-2012-A; PackageReference: RB-24; PackageDescription: 24-Pin Batwing SOIC, Thermally Enhanced with Fused Leads, Body 15.4 x 7.5 mm, Pitch 1.27 mm; Supplier 1: Digi-Key; Supplier Part Number 1: AD8016ARBZ-ND; Supplier 2: Newark; Supplier Part Number 2: 59K6181; Mounting Technology: Surface Mount; Code_JEDEC: MS-013-AD; ComponentLink1Description: Manufacturer URL; ComponentLink1URL: http://www.analog.com/en/index.html; ComponentLink2Description: Datasheet; ComponentLink2URL: http://www.analog.com/static/imported-files/data_sheets/AD8016.pdf; ComponentLink3Description: Package Specification; ComponentLink3URL: http://www.analog.com/static/imported-files/packages/479743993852630252966076RB_24.pdf
footprint ADI-RB-24_N (SOIC, 24-Leads, Body 15.4x7.5mm, Pitch 1.27mm, IPC Medium Density)
footprint ADI-RB-24_L (SOIC, 24-Leads, Body 15.4x7.5mm, Pitch 1.27mm, IPC High Density)
footprint ADI-RB-24_M (SOIC, 24-Leads, Body 15.4x7.5mm, Pitch 1.27mm, IPC Low Density)
pins: 1 +V1 (power) "Positive Power Supply, Amp 1.", 2 VOUT 1 (out) "Output Signal, Amp 1.", 3 VINN 1 (in) "Negative Input Signal, Amp 1.", 4 VINP 1 (in) "Positive Input Signal, Amp1.", 5 AGND (power) "Analog Ground.", 6 AGND (power) "Analog Ground.", 7 AGND (power) "Analog Ground.", 8 AGND (power) "Analog Ground.", 9 PWDN 0 (in) "Power-Down Input 0.", 10 DGND (power) "Digital Ground.", 11 -V1 (power) "Negative Power Supply, Amp1.", 12 NC "This pin is not connected internally", 13 NC "This pin is not connected internally", 14 -V2 (power) "-V Power Supply, Amp 2.", 15 BIAS (in) "Quiescent Current Adjust.", 16 PWDN 1 (in) "Power-Down Input 1.", 17 AGND (power) "Analog Ground.", 18 AGND (power) "Analog Ground.", 19 AGND (power) "Analog Ground.", 20 AGND (power) "Analog Ground.", 21 VINP 2 (in) "Positive Input Signal, Amp 2.", 22 VINN 2 (in) "Negative Input Signal, Amp 2.", 23 VOUT 2 (out) "Output Signal, Amp 2.", 24 +V2 (power) "Positive Power Supply, Amp 2."

## AD8016ARBZ-REEL
designator U?
Double Channel Low Power Operational Amplifier, 380 MHz BW, 1 KV/us SR, Industrial, 24-pin SOIC (RB-24), Reel; Generic Part Number: AD8016; Manufacturer: Analog Devices; PartNumber: AD8016ARBZ-REEL; Amplifiers Per Package: 2; Input Bias Current: 45uA; Input Offset Voltage: 1mV; Iq/Amp: 13.2mA; Slew Rate: 1KV/us; Small Signal Bandwidth: 380MHz; V Span Max: 26V; V Span Min: 6V; DatasheetVersion: 02-23-2012-A; PackageReference: RB-24; PackageDescription: 24-Pin Batwing SOIC, Thermally Enhanced with Fused Leads, Body 15.4 x 7.5 mm, Pitch 1.27 mm; Supplier 1: Digi-Key; Supplier Part Number 1: AD8016ARBZ-REEL-ND; Mounting Technology: Surface Mount; Code_JEDEC: MS-013-AD; ComponentLink1Description: Manufacturer URL; ComponentLink1URL: http://www.analog.com/en/index.html; ComponentLink2Description: Datasheet; ComponentLink2URL: http://www.analog.com/static/imported-files/data_sheets/AD8016.pdf; ComponentLink3Description: Package Specification; ComponentLink3URL: http://www.analog.com/static/imported-files/packages/479743993852630252966076RB_24.pdf
footprint ADI-RB-24_N (SOIC, 24-Leads, Body 15.4x7.5mm, Pitch 1.27mm, IPC Medium Density)
footprint ADI-RB-24_L (SOIC, 24-Leads, Body 15.4x7.5mm, Pitch 1.27mm, IPC High Density)
footprint ADI-RB-24_M (SOIC, 24-Leads, Body 15.4x7.5mm, Pitch 1.27mm, IPC Low Density)
pins: 1 +V1 (power) "Positive Power Supply, Amp 1.", 2 VOUT 1 (out) "Output Signal, Amp 1.", 3 VINN 1 (in) "Negative Input Signal, Amp 1.", 4 VINP 1 (in) "Positive Input Signal, Amp1.", 5 AGND (power) "Analog Ground.", 6 AGND (power) "Analog Ground.", 7 AGND (power) "Analog Ground.", 8 AGND (power) "Analog Ground.", 9 PWDN 0 (in) "Power-Down Input 0.", 10 DGND (power) "Digital Ground.", 11 -V1 (power) "Negative Power Supply, Amp1.", 12 NC "This pin is not connected internally", 13 NC "This pin is not connected internally", 14 -V2 (power) "-V Power Supply, Amp 2.", 15 BIAS (in) "Quiescent Current Adjust.", 16 PWDN 1 (in) "Power-Down Input 1.", 17 AGND (power) "Analog Ground.", 18 AGND (power) "Analog Ground.", 19 AGND (power) "Analog Ground.", 20 AGND (power) "Analog Ground.", 21 VINP 2 (in) "Positive Input Signal, Amp 2.", 22 VINN 2 (in) "Negative Input Signal, Amp 2.", 23 VOUT 2 (out) "Output Signal, Amp 2.", 24 +V2 (power) "Positive Power Supply, Amp 2."

## AD8017AR
designator U?
Double Channel Low Power Operational Amplifier, 160 MHz BW, 1.6 KV/us SR, Industrial, 8-pin SOIC (R-8), Tube; Generic Part Number: AD8017; Manufacturer: Analog Devices; PartNumber: AD8017AR; Amplifiers Per Package: 2; Input Bias Current: 160uA; Input Offset Voltage: 1.8mV; Iq/Amp: 7.7mA; Small Signal Bandwidth: 160MHz; V Span Max: 12V; V Span Min: 4.4V; DatasheetVersion: Rev. C; PackageVersion: 060506-A; PackageReference: R-8; PackageDescription: 8-Pin Standard Small Outline Package, Body 3.9 x 4.9 mm, Pitch 1.27 mm; Supplier 1: Digi-Key; Supplier Part Number 1: AD8017AR-ND; Slew Rate: 1.6KV/us; Mounting Technology: Surface Mount; Code_JEDEC: MS-012-AA; ComponentLink1Description: Manufacturer URL; ComponentLink1URL: http://www.analog.com/en/index.html; ComponentLink2Description: Datasheet; ComponentLink2URL: http://www.analog.com/static/imported-files/data_sheets/AD8017.pdf; ComponentLink3Description: Package Specification; ComponentLink3URL: http://www.analog.com/static/imported-files/packages/PKG_PDF/SOIC_Narrow%20(R)/R_8.pdf
footprint ADI-R-8_N (SOIC, 8-Leads, Body 4.9x3.9mm, Pitch 1.27mm, IPC Medium Density)
footprint ADI-R-8_L (SOIC, 8-Leads, Body 4.9x3.9mm, Pitch 1.27mm, IPC High Density)
footprint ADI-R-8_M (SOIC, 8-Leads, Body 4.9x3.9mm, Pitch 1.27mm, IPC Low Density)
pins on every part: 4 -VS (power), 8 +VS (power)
part A pins: 1 OUT 1 (out), 2 -IN 1 (in), 3 +IN 1 (in)
part B pins: 5 +IN 2 (in), 6 -IN 2 (in), 7 OUT 2 (out)

## AD8017AR-REEL
designator U?
Double Channel Low Power Operational Amplifier, 160 MHz BW, 1.6 KV/us SR, Industrial, 8-pin SOIC (R-8), Reel; Generic Part Number: AD8017; Manufacturer: Analog Devices; PartNumber: AD8017AR-REEL; Amplifiers Per Package: 2; Input Bias Current: 160uA; Input Offset Voltage: 1.8mV; Iq/Amp: 7.7mA; Small Signal Bandwidth: 160MHz; V Span Max: 12V; V Span Min: 4.4V; DatasheetVersion: Rev. C; PackageVersion: 060506-A; PackageReference: R-8; PackageDescription: 8-Pin Standard Small Outline Package, Body 3.9 x 4.9 mm, Pitch 1.27 mm; Supplier 1: Digi-Key; Supplier Part Number 1: AD8017AR-REEL-ND; Supplier 2: Newark; Supplier Part Number 2: 09B6360; Slew Rate: 1.6KV/us; Mounting Technology: Surface Mount; Code_JEDEC: MS-012-AA; ComponentLink1Description: Manufacturer URL; ComponentLink1URL: http://www.analog.com/en/index.html; ComponentLink2Description: Datasheet; ComponentLink2URL: http://www.analog.com/static/imported-files/data_sheets/AD8017.pdf; ComponentLink3Description: Package Specification; ComponentLink3URL: http://www.analog.com/static/imported-files/packages/PKG_PDF/SOIC_Narrow%20(R)/R_8.pdf
footprint ADI-R-8_N (SOIC, 8-Leads, Body 4.9x3.9mm, Pitch 1.27mm, IPC Medium Density)
footprint ADI-R-8_L (SOIC, 8-Leads, Body 4.9x3.9mm, Pitch 1.27mm, IPC High Density)
footprint ADI-R-8_M (SOIC, 8-Leads, Body 4.9x3.9mm, Pitch 1.27mm, IPC Low Density)
pins on every part: 4 -VS (power), 8 +VS (power)
part A pins: 1 OUT 1 (out), 2 -IN 1 (in), 3 +IN 1 (in)
part B pins: 5 +IN 2 (in), 6 -IN 2 (in), 7 OUT 2 (out)

## AD8017AR-REEL7
designator U?
Double Channel Low Power Operational Amplifier, 160 MHz BW, 1.6 KV/us SR, Industrial, 8-pin SOIC (R-8), Reel; Generic Part Number: AD8017; Manufacturer: Analog Devices; PartNumber: AD8017AR-REEL7; Amplifiers Per Package: 2; Input Bias Current: 160uA; Input Offset Voltage: 1.8mV; Iq/Amp: 7.7mA; Small Signal Bandwidth: 160MHz; V Span Max: 12V; V Span Min: 4.4V; DatasheetVersion: Rev. C; PackageVersion: 060506-A; PackageReference: R-8; PackageDescription: 8-Pin Standard Small Outline Package, Body 3.9 x 4.9 mm, Pitch 1.27 mm; Supplier 1: Digi-Key; Supplier Part Number 1: AD8017AR-REEL7-ND; Slew Rate: 1.6KV/us; Mounting Technology: Surface Mount; Code_JEDEC: MS-012-AA; ComponentLink1Description: Manufacturer URL; ComponentLink1URL: http://www.analog.com/en/index.html; ComponentLink2Description: Datasheet; ComponentLink2URL: http://www.analog.com/static/imported-files/data_sheets/AD8017.pdf; ComponentLink3Description: Package Specification; ComponentLink3URL: http://www.analog.com/static/imported-files/packages/PKG_PDF/SOIC_Narrow%20(R)/R_8.pdf
footprint ADI-R-8_N (SOIC, 8-Leads, Body 4.9x3.9mm, Pitch 1.27mm, IPC Medium Density)
footprint ADI-R-8_L (SOIC, 8-Leads, Body 4.9x3.9mm, Pitch 1.27mm, IPC High Density)
footprint ADI-R-8_M (SOIC, 8-Leads, Body 4.9x3.9mm, Pitch 1.27mm, IPC Low Density)
pins on every part: 4 -VS (power), 8 +VS (power)
part A pins: 1 OUT 1 (out), 2 -IN 1 (in), 3 +IN 1 (in)
part B pins: 5 +IN 2 (in), 6 -IN 2 (in), 7 OUT 2 (out)

## AD8017ARZ
designator U?
Double Channel Low Power Operational Amplifier, 160 MHz BW, 1.6 KV/us SR, Industrial, 8-pin SOIC (R-8), Tube; Generic Part Number: AD8017; Manufacturer: Analog Devices; PartNumber: AD8017ARZ; Amplifiers Per Package: 2; Input Bias Current: 160uA; Input Offset Voltage: 1.8mV; Iq/Amp: 7.7mA; Small Signal Bandwidth: 160MHz; V Span Max: 12V; V Span Min: 4.4V; DatasheetVersion: Rev. C; PackageVersion: 060506-A; PackageReference: R-8; PackageDescription: 8-Pin Standard Small Outline Package, Body 3.9 x 4.9 mm, Pitch 1.27 mm; Supplier 1: Digi-Key; Supplier Part Number 1: AD8017ARZ-ND; Supplier 2: Farnell; Supplier Part Number 2: 9425705; Supplier 3: Newark; Supplier Part Number 3: 31M4441; Supplier 4: Newark; Supplier Part Number 4: 82H2945; Slew Rate: 1.6KV/us; Mounting Technology: Surface Mount; Code_JEDEC: MS-012-AA; ComponentLink1Description: Manufacturer URL; ComponentLink1URL: http://www.analog.com/en/index.html; ComponentLink2Description: Datasheet; ComponentLink2URL: http://www.analog.com/static/imported-files/data_sheets/AD8017.pdf; ComponentLink3Description: Package Specification; ComponentLink3URL: http://www.analog.com/static/imported-files/packages/PKG_PDF/SOIC_Narrow%20(R)/R_8.pdf
footprint ADI-R-8_N (SOIC, 8-Leads, Body 4.9x3.9mm, Pitch 1.27mm, IPC Medium Density)
footprint ADI-R-8_L (SOIC, 8-Leads, Body 4.9x3.9mm, Pitch 1.27mm, IPC High Density)
footprint ADI-R-8_M (SOIC, 8-Leads, Body 4.9x3.9mm, Pitch 1.27mm, IPC Low Density)
pins on every part: 4 -VS (power), 8 +VS (power)
part A pins: 1 OUT 1 (out), 2 -IN 1 (in), 3 +IN 1 (in)
part B pins: 5 +IN 2 (in), 6 -IN 2 (in), 7 OUT 2 (out)

## AD8017ARZ-REEL
designator U?
Double Channel Low Power Operational Amplifier, 160 MHz BW, 1.6 KV/us SR, Industrial, 8-pin SOIC (R-8), Reel; Generic Part Number: AD8017; Manufacturer: Analog Devices; PartNumber: AD8017ARZ-REEL; Amplifiers Per Package: 2; Input Bias Current: 160uA; Input Offset Voltage: 1.8mV; Iq/Amp: 7.7mA; Small Signal Bandwidth: 160MHz; V Span Max: 12V; V Span Min: 4.4V; DatasheetVersion: Rev. C; PackageVersion: 060506-A; PackageReference: R-8; PackageDescription: 8-Pin Standard Small Outline Package, Body 3.9 x 4.9 mm, Pitch 1.27 mm; Supplier 1: Digi-Key; Supplier Part Number 1: AD8017ARZ-REEL-ND; Slew Rate: 1.6KV/us; Mounting Technology: Surface Mount; Code_JEDEC: MS-012-AA; ComponentLink1Description: Manufacturer URL; ComponentLink1URL: http://www.analog.com/en/index.html; ComponentLink2Description: Datasheet; ComponentLink2URL: http://www.analog.com/static/imported-files/data_sheets/AD8017.pdf; ComponentLink3Description: Package Specification; ComponentLink3URL: http://www.analog.com/static/imported-files/packages/PKG_PDF/SOIC_Narrow%20(R)/R_8.pdf
footprint ADI-R-8_N (SOIC, 8-Leads, Body 4.9x3.9mm, Pitch 1.27mm, IPC Medium Density)
footprint ADI-R-8_L (SOIC, 8-Leads, Body 4.9x3.9mm, Pitch 1.27mm, IPC High Density)
footprint ADI-R-8_M (SOIC, 8-Leads, Body 4.9x3.9mm, Pitch 1.27mm, IPC Low Density)
pins on every part: 4 -VS (power), 8 +VS (power)
part A pins: 1 OUT 1 (out), 2 -IN 1 (in), 3 +IN 1 (in)
part B pins: 5 +IN 2 (in), 6 -IN 2 (in), 7 OUT 2 (out)

## AD8017ARZ-REEL7
designator U?
Double Channel Low Power Operational Amplifier, 160 MHz BW, 1.6 KV/us SR, Industrial, 8-pin SOIC (R-8), Reel; Generic Part Number: AD8017; Manufacturer: Analog Devices; PartNumber: AD8017ARZ-REEL7; Amplifiers Per Package: 2; Input Bias Current: 160uA; Input Offset Voltage: 1.8mV; Iq/Amp: 7.7mA; Small Signal Bandwidth: 160MHz; V Span Max: 12V; V Span Min: 4.4V; DatasheetVersion: Rev. C; PackageVersion: 060506-A; PackageReference: R-8; PackageDescription: 8-Pin Standard Small Outline Package, Body 3.9 x 4.9 mm, Pitch 1.27 mm; Supplier 1: Digi-Key; Supplier Part Number 1: AD8017ARZ-REEL7TR-ND; Supplier 2: Digi-Key; Supplier Part Number 2: AD8017ARZ-REEL7CT-ND; Supplier 3: Digi-Key; Supplier Part Number 3: AD8017ARZ-REEL7DKR-ND; Slew Rate: 1.6KV/us; Mounting Technology: Surface Mount; Code_JEDEC: MS-012-AA; ComponentLink1Description: Manufacturer URL; ComponentLink1URL: http://www.analog.com/en/index.html; ComponentLink2Description: Datasheet; ComponentLink2URL: http://www.analog.com/static/imported-files/data_sheets/AD8017.pdf; ComponentLink3Description: Package Specification; ComponentLink3URL: http://www.analog.com/static/imported-files/packages/PKG_PDF/SOIC_Narrow%20(R)/R_8.pdf
footprint ADI-R-8_N (SOIC, 8-Leads, Body 4.9x3.9mm, Pitch 1.27mm, IPC Medium Density)
footprint ADI-R-8_L (SOIC, 8-Leads, Body 4.9x3.9mm, Pitch 1.27mm, IPC High Density)
footprint ADI-R-8_M (SOIC, 8-Leads, Body 4.9x3.9mm, Pitch 1.27mm, IPC Low Density)
pins on every part: 4 -VS (power), 8 +VS (power)
part A pins: 1 OUT 1 (out), 2 -IN 1 (in), 3 +IN 1 (in)
part B pins: 5 +IN 2 (in), 6 -IN 2 (in), 7 OUT 2 (out)

## AD8018AR-REEL7
designator U?
Double Channel Rail-to-Rail Operational Amplifier, 130 MHz BW, 300 V/us SR, Industrial, 8-pin SOIC (R-8), Reel; Generic Part Number: AD8018; Manufacturer: Analog Devices; PartNumber: AD8018AR-REEL7; Amplifiers Per Package: 2; Input Bias Current: 1uA; Input Offset Voltage: 1mV; Iq/Amp: 10mA; Small Signal Bandwidth: 130MHz; V Span Max: 8V; V Span Min: 3.3V; DatasheetVersion: Rev. A; PackageVersion: 060506-A; PackageReference: R-8; PackageDescription: 8-Pin Standard Small Outline Package, Body 3.9 x 4.9 mm, Pitch 1.27 mm; Supplier 1: Digi-Key; Supplier Part Number 1: AD8018AR-REEL7TR-ND; Supplier 2: Digi-Key; Supplier Part Number 2: AD8018AR-REEL7CT-ND; Supplier 3: Digi-Key; Supplier Part Number 3: AD8018AR-REEL7DKR-ND; Slew Rate: 300V/us; Mounting Technology: Surface Mount; Code_JEDEC: MS-012-AA; ComponentLink1Description: Manufacturer URL; ComponentLink1URL: http://www.analog.com/en/index.html; ComponentLink2Description: Datasheet; ComponentLink2URL: http://www.analog.com/static/imported-files/data_sheets/AD8018.pdf; ComponentLink3Description: Package Specification; ComponentLink3URL: http://www.analog.com/static/imported-files/packages/PKG_PDF/SOIC_Narrow%20(R)/R_8.pdf
footprint ADI-R-8_N (SOIC, 8-Leads, Body 4.9x3.9mm, Pitch 1.27mm, IPC Medium Density)
footprint ADI-R-8_L (SOIC, 8-Leads, Body 4.9x3.9mm, Pitch 1.27mm, IPC High Density)
footprint ADI-R-8_M (SOIC, 8-Leads, Body 4.9x3.9mm, Pitch 1.27mm, IPC Low Density)
pins on every part: 4 -VS (power), 8 +VS (power)
part A pins: 1 OUT 1 (out), 2 -IN 1 (in), 3 +IN 1 (in)
part B pins: 5 +IN 2 (in), 6 -IN 2 (in), 7 OUT 2 (out)

## AD8018ARUZ
designator U?
Double Channel Rail-to-Rail Operational Amplifier, 130 MHz BW, 300 V/us SR, Industrial, 14-pin SOP (RU-14), Tube; Generic Part Number: AD8018; Manufacturer: Analog Devices; PartNumber: AD8018ARUZ; Amplifiers Per Package: 2; Input Bias Current: 1uA; Input Offset Voltage: 1mV; Iq/Amp: 10mA; Small Signal Bandwidth: 130MHz; V Span Max: 8V; V Span Min: 3.3V; DatasheetVersion: Rev. A; PackageReference: RU-14; PackageDescription: 14-Pin Thin Shrink Small Outline Package, Body 5 x 4.4 mm, Pitch 0.65 mm; Supplier 1: Digi-Key; Supplier Part Number 1: AD8018ARUZ-ND; Supplier 2: Farnell; Supplier Part Number 2: 1899407; Supplier 3: Newark; Supplier Part Number 3: 59K6188; Slew Rate: 300V/us; Mounting Technology: Surface Mount; Code_JEDEC: MO-153AB-1; ComponentLink1Description: Manufacturer URL; ComponentLink1URL: http://www.analog.com/en/index.html; ComponentLink2Description: Datasheet; ComponentLink2URL: http://www.analog.com/static/imported-files/data_sheets/AD8018.pdf; ComponentLink3Description: Package Specification; ComponentLink3URL: http://www.analog.com/static/imported-files/packages/36057385283879153717235186773RU14.pdf
footprint ADI-RU-14_N (SOP, 14-Leads, Body 5x4.4mm, Pitch 0.65mm, IPC Medium Density)
footprint ADI-RU-14_L (SOP, 14-Leads, Body 5x4.4mm, Pitch 0.65mm, IPC High Density)
footprint ADI-RU-14_M (SOP, 14-Leads, Body 5x4.4mm, Pitch 0.65mm, IPC Low Density)
part A pins: 2 OUT 1 (hiz), 3 -IN 1 (in), 4 +IN 1 (in)
part B pins: 10 +IN 2 (in), 11 -IN 2 (in), 12 OUT 2 (hiz)
part C pins: 1 NC, 5 -VS (power), 6 PWDN 1 (in), 7 NC, 8 DGND (power), 9 PWDN 0 (in), 13 +VS (power), 14 NC

## AD8018ARUZ-REEL
designator U?
Double Channel Rail-to-Rail Operational Amplifier, 130 MHz BW, 300 V/us SR, Industrial, 14-pin SOP (RU-14), Reel; Generic Part Number: AD8018; Manufacturer: Analog Devices; PartNumber: AD8018ARUZ-REEL; Amplifiers Per Package: 2; Input Bias Current: 1uA; Input Offset Voltage: 1mV; Iq/Amp: 10mA; Small Signal Bandwidth: 130MHz; V Span Max: 8V; V Span Min: 3.3V; DatasheetVersion: Rev. A; PackageReference: RU-14; PackageDescription: 14-Pin Thin Shrink Small Outline Package, Body 5 x 4.4 mm, Pitch 0.65 mm; Supplier 1: Digi-Key; Supplier Part Number 1: AD8018ARUZ-REEL-ND; Slew Rate: 300V/us; Mounting Technology: Surface Mount; Code_JEDEC: MO-153AB-1; ComponentLink1Description: Manufacturer URL; ComponentLink1URL: http://www.analog.com/en/index.html; ComponentLink2Description: Datasheet; ComponentLink2URL: http://www.analog.com/static/imported-files/data_sheets/AD8018.pdf; ComponentLink3Description: Package Specification; ComponentLink3URL: http://www.analog.com/static/imported-files/packages/36057385283879153717235186773RU14.pdf
footprint ADI-RU-14_N (SOP, 14-Leads, Body 5x4.4mm, Pitch 0.65mm, IPC Medium Density)
footprint ADI-RU-14_L (SOP, 14-Leads, Body 5x4.4mm, Pitch 0.65mm, IPC High Density)
footprint ADI-RU-14_M (SOP, 14-Leads, Body 5x4.4mm, Pitch 0.65mm, IPC Low Density)
part A pins: 2 OUT 1 (hiz), 3 -IN 1 (in), 4 +IN 1 (in)
part B pins: 10 +IN 2 (in), 11 -IN 2 (in), 12 OUT 2 (hiz)
part C pins: 1 NC, 5 -VS (power), 6 PWDN 1 (in), 7 NC, 8 DGND (power), 9 PWDN 0 (in), 13 +VS (power), 14 NC